# EAGLE library part FPGA-ISP (library Jim)
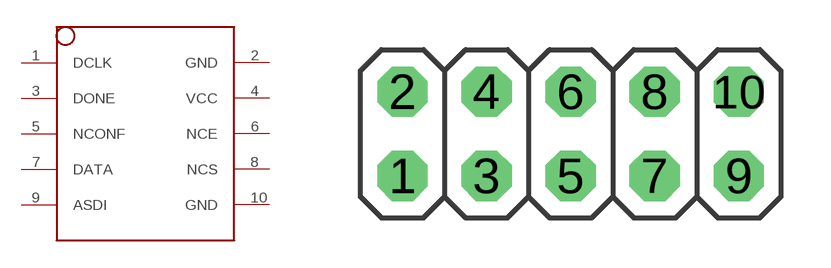
[diagram p32: symbol with the pads of 2X05; footprint 2X05]

Designator prefix -

## FPGA-ISP  [2X05]
1  DCLK
2  GND
3  DONE
4  VCC
5  NCONF
6  NCE
7  DATA
8  NCS
9  ASDI
10  GND

## Footprint 2X05 (pad centres in mm)
drill 1.016 octagon: 1 -5.08,-1.27; 2 -5.08,1.27; 3 -2.54,-1.27; 4 -2.54,1.27; 5 0,-1.27; 6 0,1.27; 7 2.54,-1.27; 8 2.54,1.27; 9 5.08,-1.27; 10 5.08,1.27